# Altium schematic symbol library EA DOGL128W-6.SchLib: 1 symbol
Pins are listed as number, name and electrical type; pins without a type are passive.

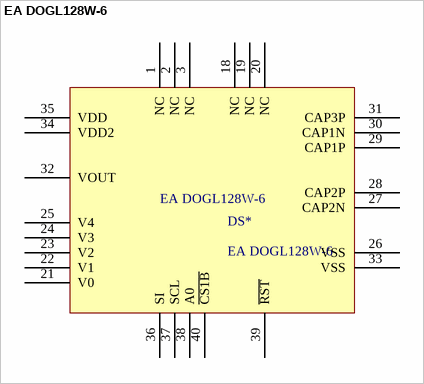
[diagram p0: symbol EA DOGL128W-6]

## EA DOGL128W-6
designator DS*
Supplier 1: DigiKey; Supplier Part Number 1: 1481-1058-ND
footprint EA DOGL128W-6
pins: 1 NC, 2 NC, 3 NC, 18 NC, 19 NC, 20 NC, 21 V0, 22 V1, 23 V2, 24 V3, 25 V4, 26 VSS, 27 CAP2N, 28 CAP2P, 29 CAP1P, 30 CAP1N, 31 CAP3P, 32 VOUT, 33 VSS, 34 VDD2, 35 VDD, 36 SI, 37 SCL, 38 A0, 39 ~{RST}, 40 ~{CS1B}